# Altium footprint library 1.60.PcbLib: 19 footprints (part 1 of 2)
Each footprint in its own frame and in the unit in brackets; x right, y up, seen from the top. Pads: shape width x height; smd on the part's side, far side on the other; paste and mask are expansions set on the pad; w line width, h text height; cw(c..) or ccw(c..) is an arc to the next point about the centre after c.
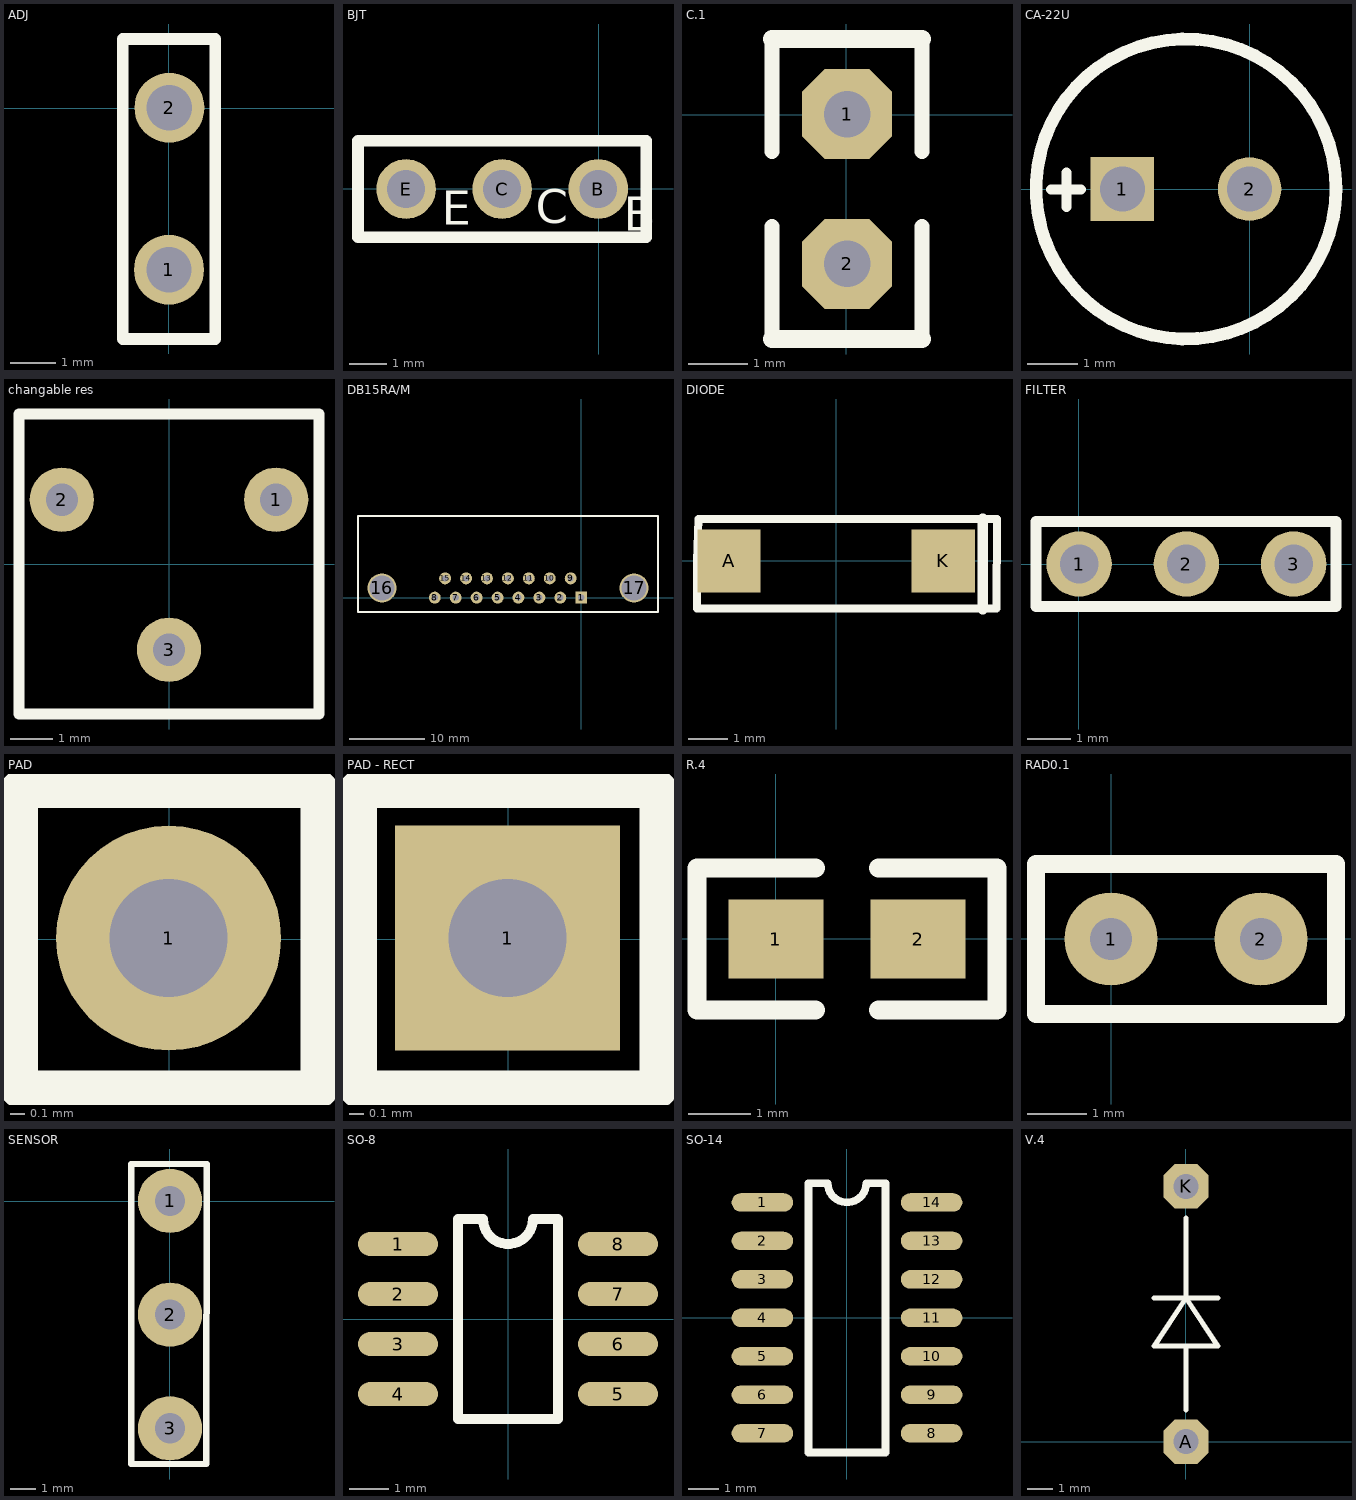
[diagram p0: the footprints below, top view; thin cyan lines are the x and y axes]

## ADJ [mm]
pads (2):
  round 1.54 hole 1: 1(0,-3.556) 2(0.01,0.011)
Top Overlay:
  lines w0.254: -1.016,-5.08 -1.016,1.524 1.016,1.524 1.016,1.016 1.016,0 1.016,-1.016 1.016,-5.08 0,-5.08 -1.016,-5.08

## BJT [mil]
pads (3):
  round 62 hole 39.37: B(-0.49,-0.21) C(-100.49,-0.21) E(-200.49,-0.21)
Top Overlay:
  lines w12: -250.49,-50.21 49.51,-50.21 49.51,49.79 -250.49,49.79 -250.49,-50.21
  text "E" at -163.47,-37.5 h35.43
  text "C" at -65.44,-35.93 h35.43
  text "B" at 26.29,-43.41 h35.43

## C.1 [mil]
pads (2):
  oct 60x60 hole 31: 1(0.38,0.43) 2(0.38,-99.57)
Top Overlay:
  lines w3: 50.38,-24.57 50.38,50.43
  lines w6: 50.38,-24.57 50.38,50.43
  lines w10: -49.62,-149.57 -49.62,-74.57 ; -49.62,-24.57 -49.62,50.43 ; 50.38,-99.57 50.38,-149.57 50.38,-74.57 ; 50.38,-24.57 50.38,50.43
  lines w12: -49.62,-149.57 50.38,-149.57 ; -49.62,50.43 50.38,50.43

## CA-22U [mm]
pads (2):
  rect 1.27x1.27 hole 0.9: 1(-2.543,0)
  round 1.27 hole 0.9: 2(-0.003,0)
Top Overlay:
  circle w0.254: c-1.273,0 r3
  lines w0.2: -3.971,-0.009 -3.371,-0.009 ; -3.661,-0.359 -3.661,0.331

## changable res [mil]
pads (3):
  round 60 hole 30: 1(100,60) 2(-100,60) 3(0,-80)
Top Overlay:
  lines w10: -140,-140 -140,0 -140,140 0,140 140,140 140,-20 140,-140 0,-140 -140,-140

## DB15RA/M [mil]
pads (17):
  rect 62x62 hole 32: 1(0.38,0.43)
  round 62 hole 32: 2(-108.62,0.43) 3(-217.62,0.43) 4(-326.62,0.43) 5(-435.62,0.43) 6(-544.62,0.43) 7(-653.62,0.43) 8(-762.62,0.43) 9(-54.62,100.43) 10(-163.62,100.43) 11(-272.62,100.43) 12(-381.62,100.43) 13(-490.62,100.43) 14(-599.62,100.43) 15(-708.62,100.43)
  round 150 hole 129.92: 16(-1037.62,50.43) 17(275.38,50.43)
Top Overlay:
  lines w8: -1162.62,425.43 -1162.62,-74.57 400.38,-74.57
  lines w10: -1162.62,425.43 400.38,425.43 400.38,-74.57

## DIODE [mm]
pads (2):
  rect 1.6x1.6 smd: A(-2.7,0) K(2.7,0)
Top Overlay:
  lines w0.2: -3.508,-1.2 -3.508,0 -3.473,1.057 4.061,1.057 4.051,-1.2 -3.508,-1.2
  lines w0.254: 3.7,-1.219 3.7,1.067

## FILTER [mil]
pads (3):
  round 60 hole 35.43: 1(0.14,0) 2(98.57,0) 3(196.99,0)
Top Overlay:
  lines w10: -39.37,-38.98 235.83,-38.98 235.83,38.98 -39.37,38.98 -39.37,-38.98

## PAD [mil]
pads (1):
  round 60 hole 31.5: 1(-0.09,0.23)
Top Overlay:
  lines w10: -40,-40 -40,40 40,40 40,-40 0,-40 -40,-40

## PAD - RECT [mil]
pads (1):
  rect 60x60 hole 31.5: 1(-0.09,0.23)
Top Overlay:
  lines w10: -40,-40 -40,40 40,40 40,-40 -40,-40

## R.4 [mil]
pads (2):
  rect 60x50 smd: 1(0.01,-0.01) 2(90.01,-0.01)
Top Overlay:
  lines w12: 25.01,-45.01 -49.99,-45.01 -49.99,44.99 25.01,44.99 ; 65.01,-45.01 140.01,-45.01 140.01,44.99 65.01,44.99

## RAD0.1 [mil]
pads (2):
  round 62 hole 28: 1(0,-0.01) 2(100,-0.01)
Top Overlay:
  lines w12: -50,-50.01 150,-50.01 150,49.99 -50,49.99 -50,-50.01

## SENSOR [mil]
pads (3):
  round 100 hole 47: 1(0.56,0.44) 2(0.56,-176.72) 3(0.56,-353.89)
Top Overlay:
  lines w10: -60.14,-409.46 -60.14,57.87 57.97,57.87 57.18,-409.46 -60.14,-409.46

## SO-8 [mil]
pads (8):
  oval 80x24 smd: 1(-110,75) 2(-110,25) 3(-110,-25) 4(-110,-75) 5(110,-75) 6(110,-25) 7(110,25) 8(110,75)
Top Overlay:
  lines w10: -50,-100 -50,100 -25,100 ccw(c0,100) 25,100 50,100 50,-100 -50,-100

## SO-14 [mil]
pads (14):
  oval 80x24 smd: 1(-110,150) 2(-110,100) 3(-110,50) 4(-110,0) 5(-110,-50) 6(-110,-100) 7(-110,-150) 8(110,-150) 9(110,-100) 10(110,-50) 11(110,0) 12(110,50) 13(110,100) 14(110,150)
Top Overlay:
  lines w10: -50,-175 50,-175 50,175 25,175 cw(c0,175) -25,175 -50,175 -50,-175

## V.4 [mil]
pads (2):
  oct 70x70 hole 39: A(0.38,0.43) K(0.38,400.43)
Top Overlay:
  lines w8: -49.62,225.43 50.38,225.43 ; 0.38,50.43 0.38,150.43 ; 0.38,350.43 0.38,225.43 ; 0.38,225.43 -49.62,150.43 25.38,150.43 50.38,150.43 0.38,225.43